# EAGLE library part AD8608 (library nonolith)
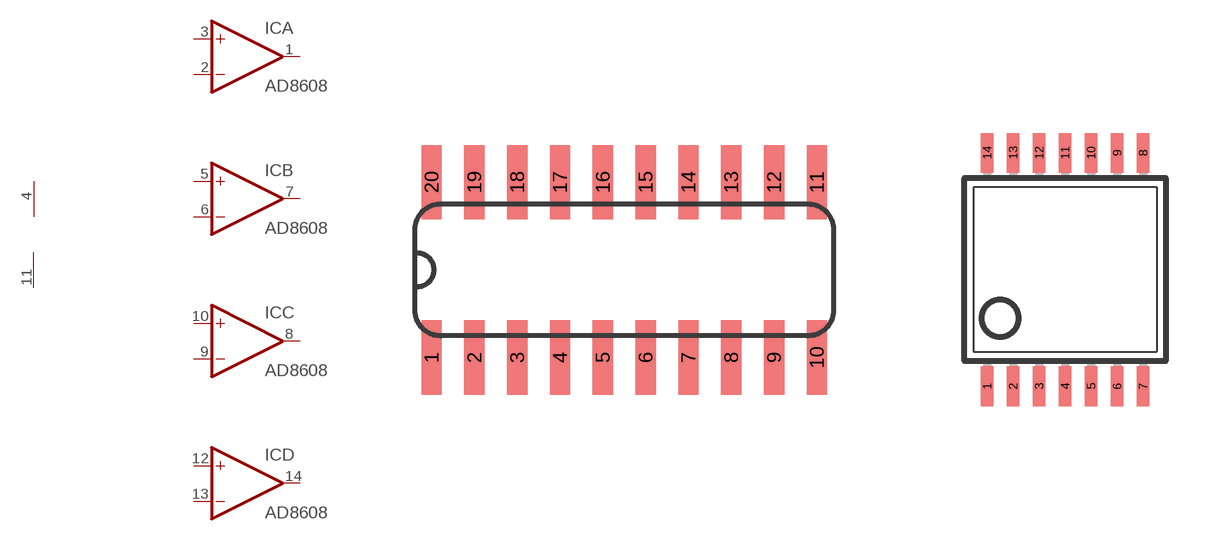
[diagram p13: symbol with the pads of SO-20; footprints SO-20, TSSOP-14]

Designator prefix IC; gates A=OPAMP B=OPAMP C=OPAMP D=OPAMP G$1=PWR+-

## AD8608R  [SO-20]
1  A:OUT  out
2  A:-IN  in
3  A:+IN  in
4  G$1:V+  pwr
5  B:+IN  in
6  B:-IN  in
7  B:OUT  out
8  C:OUT  out
9  C:-IN  in
10  C:+IN  in
11  G$1:V-  pwr
12  D:+IN  in
13  D:-IN  in
14  D:OUT  out

## AD8608RU  [TSSOP-14]
Pads as for SO-20

## Footprint SO-20 (pad centres in mm)
SO-20
smd 0.6 x 2.2: 1 -6.35,-2.6; 2 -5.08,-2.6; 3 -3.81,-2.6; 4 -2.54,-2.6; 5 -1.27,-2.6; 6 0,-2.6; 7 1.27,-2.6; 8 2.54,-2.6; 9 3.81,-2.6; 10 5.08,-2.6; 11 5.08,2.6; 12 3.81,2.6; 13 2.54,2.6; 14 1.27,2.6; 15 0,2.6; 16 -1.27,2.6; 17 -2.54,2.6; 18 -3.81,2.6; 19 -5.08,2.6; 20 -6.35,2.6

## Footprint TSSOP-14 (pad centres in mm)
smd 0.305 x 0.991: 1 -1.95,-2.918; 2 -1.3,-2.918; 3 -0.65,-2.918; 4 0,-2.918; 5 0.65,-2.918; 6 1.3,-2.918; 7 1.95,-2.918; 8 1.95,2.918; 9 1.3,2.918; 10 0.65,2.918; 11 0,2.918; 12 -0.65,2.918; 13 -1.3,2.918; 14 -1.95,2.918